# Altium footprint library RSX_Connectors.PcbLib: 17 footprints (part 2 of 2)
Each footprint in its own frame and in the unit in brackets; x right, y up, seen from the top. Pads: shape width x height; smd on the part's side, far side on the other; paste and mask are expansions set on the pad; w line width, h text height; cw(c..) or ccw(c..) is an arc to the next point about the centre after c.
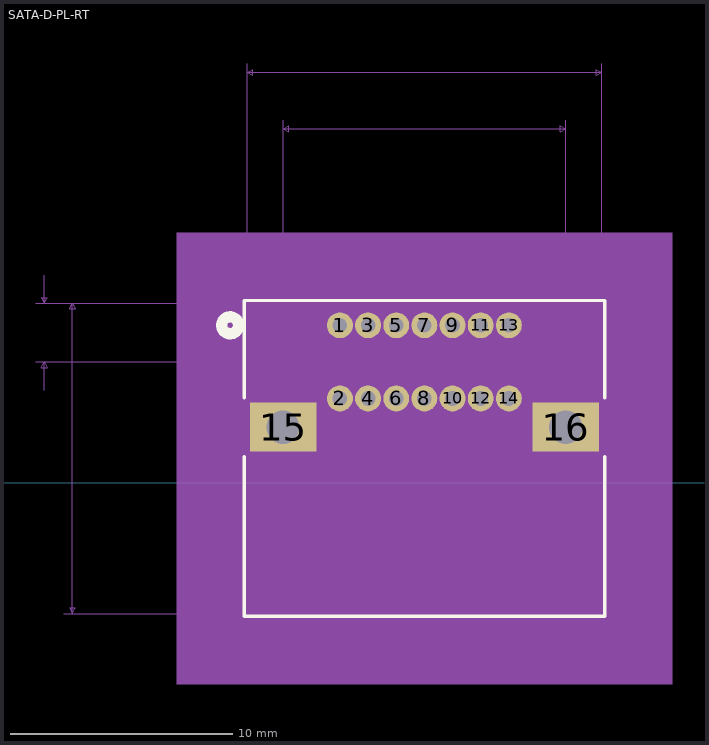
[diagram p1: the footprint, top view; thin cyan lines are the x and y axes]

## SATA-D-PL-RT [mil] "14 Position SATA Plug, Shrouded, Stacked Connector Solder Through Hole, Right Angle"
pads (16):
  round 46 hole 26 mask+0: 1(3535,280) 2(3535,150) 3(3585,280) 4(3585,150) 5(3635,280) 6(3635,150) 7(3685,280) 8(3685,150) 9(3735,280) 10(3735,150) 11(3785,280) 12(3785,150) 13(3835,280) 14(3835,150)
  rect 118x87 hole 59: 15(3434,99) 16(3936,99)
Top Overlay:
  circle w20: c3340,280 r15
  lines w6: 3365,47.04 3365,-237 4005,-237 4005,47.04 ; 3365,150.96 3365,324 4005,324 4005,150.96
Bottom Overlay:
  circle w20: c3340,280 r15
Mechanical 5:
  region: 3245,444 4125,444 4125,-357 3245,-357
Mechanical 7:
  lines w1: 2995,215 3685,215 3270,215 ; 2995,319 3370,319 ; 3010,165 3010,215 ; 3010,369 3010,319 ; 3045,-232 3370,-232 ; 3045,319 3370,319 ; 3270,99 3936,99 3936,644 ; 3285,49 3285,99 ; 3285,265 3285,215 ; 3370,744 3370,319 ; 3434,99 3434,644 ; 3485,404 3535,404 ; 3535,150 4115,150 ; 3535,419 3535,280 4115,280 ; 3585,280 3585,419 ; 3635,404 3585,404 ; 4000,319 4000,744 ; 4100,100 4100,150 ; 4100,330 4100,280 ; 3010,215 3015,205 3005,205 3010,215 ; 3010,319 3015,329 3005,329 3010,319 ; 3060,-232 3065,-222 3055,-222 3060,-232 ; 3060,-232 3060,319 ; 3060,319 3065,309 3055,309 3060,319 ; 3285,99 3290,89 3280,89 3285,99 ; 3285,215 3290,225 3280,225 3285,215 ; 3370,729 3380,724 3380,734 3370,729 ; 3370,729 4000,729 ; 3434,629 3444,624 3444,634 3434,629 ; 3434,629 3936,629 ; 3535,404 3525,399 3525,409 3535,404 ; 3585,404 3595,399 3595,409 3585,404 ; 3936,629 3926,624 3926,634 3936,629 ; 4000,729 3990,724 3990,734 4000,729 ; 4100,150 4105,140 4095,140 4100,150 ; 4100,280 4105,290 4095,290 4100,280
  text "Default Padstyle: c117h66" at 3372.5,-392 h50
  text "0.551in/13.995mm" at 2840,31 h25
  text "0.104in/2.642mm" at 2802.5,254.5 h25
  text "-0.116in/-2.946mm" at 3052.5,144.5 h25
  text "0.13in/3.302mm" at 4120,202.5 h25
  text "0.63in/16.002mm" at 3591.25,749 h25
  text "0.502in/12.751mm" at 3585,649 h25
  text "0.05in/1.27mm" at 3478.75,424 h25
  text "Alt Padstyle 2: b229_152h76" at 3347.5,-917 h50
  text "Alt Padstyle 1: b152_229h76" at 3347.5,-842 h50
  text "Right Mtg Padstyle: c152h76" at 3347.5,-767 h50
  text "Left Mtg Padstyle: c152h76" at 3360,-692 h50
  text "3rd Mtg Padstyle: c178h178" at 3360,-617 h50
  text "2nd Mtg Padstyle: c178h178" at 3360,-542 h50
  text "1st Mtg Padstyle: r300_221h150" at 3310,-467 h50
Mechanical 13:
  circle w20: c3535,355 r15
  lines w1: 3370,-232 3370,319 4000,319 4000,-232 3370,-232
Mechanical 15:
  region: 4010,329 3360,329 3360,-242 4010,-242
  lines w6: 3360,-242 4010,-242 4010,329 3360,329 3360,-242
3D body: height 10, standoff 0, extent 3535,280 3545,290